# Altium footprint library 5600200530.PcbLib: 1 footprints
Each footprint in its own frame and in the unit in brackets; x right, y up, seen from the top. Pads: shape width x height; smd on the part's side, far side on the other; paste and mask are expansions set on the pad; w line width, h text height; cw(c..) or ccw(c..) is an arc to the next point about the centre after c.
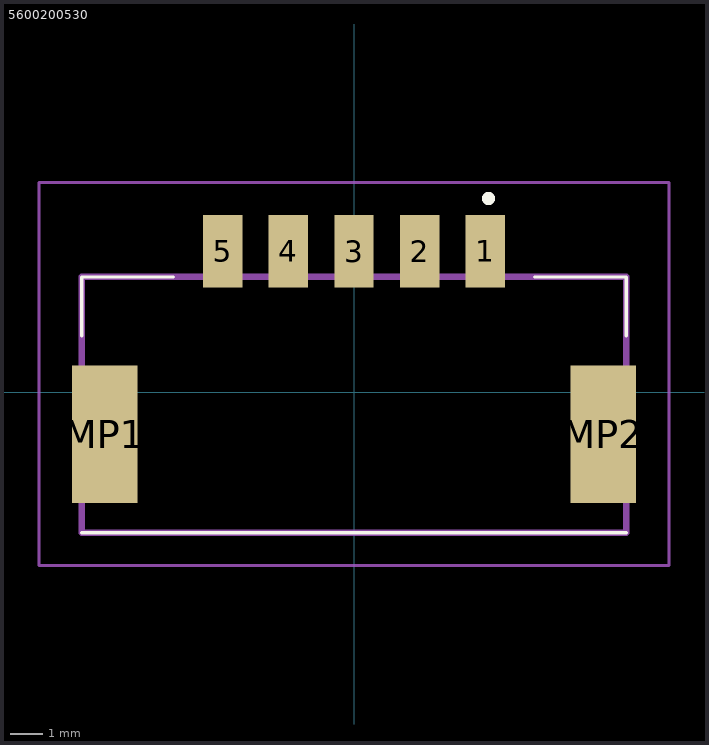
[diagram p0: the footprint, top view; thin cyan lines are the x and y axes]

## 5600200530 [mm]
pads (7):
  rect 1.2x2.2 smd: 1(4,4.29) 2(2,4.29) 3(0,4.29) 4(-2,4.29) 5(-4,4.29)
  rect 2x4.2 smd: MP1(-7.6,-1.29) MP2(7.6,-1.29)
Top Overlay:
  lines w0.1: -8.3,-4.29 8.3,-4.29 ; -8.3,1.71 -8.3,3.51 -5.5,3.51 ; 5.5,3.51 8.3,3.51 8.3,1.71
  lines w0.2: 4.1,5.8 4.1,5.8 ; 4.1,5.8 ccw(c4.1,5.9) 4.1,6 ; 4.1,5.8 cw(c4.1,5.9) 4.1,6 ; 4.1,6 4.1,6
Mechanical 15:
  lines w0.2: -8.3,-4.29 8.3,-4.29 8.3,3.51 -8.3,3.51 -8.3,-4.29
Mechanical 20:
  lines w0.1: -9.6,-5.29 9.6,-5.29 9.6,6.39 -9.6,6.39 -9.6,-5.29
3D body "560020-0530.stp": height 5.8, standoff -4.65, extent -10,-3.376 10,3.376